# EAGLE library part MICROFTX (library DonB)
MicroFTX USB serial converter
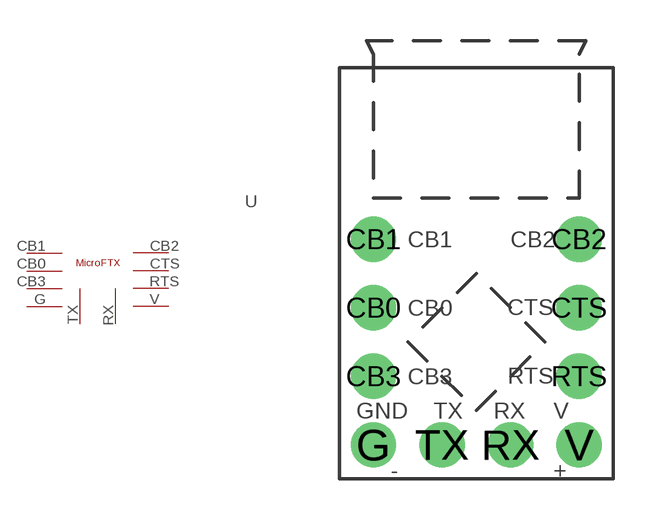
[diagram p7: symbol with the pads of MICROFTX; footprint MICROFTX]

Designator prefix -

## MICROFTX  [MICROFTX]
CB0  CB0
CB1  CB1
CB2  CB2
CB3  CB3
CTS  CTS
G  G
RTS  RTS
RX  RX
TX  TX
V  V

## Footprint MICROFTX (pad centres in mm)
drill 0.914 pad 1.676: CB0 -3.81,0; CB1 -3.81,2.54; CB2 3.81,2.54; CB3 -3.81,-2.54; CTS 3.81,0; G -3.81,-5.08; RTS 3.81,-2.54; RX 1.27,-5.08; TX -1.27,-5.08; V 3.81,-5.08